# Altium schematic symbol library IsolationBoostConverter.SCHLIB: 9 symbols
Pins are listed as number, name and electrical type; pins without a type are passive.

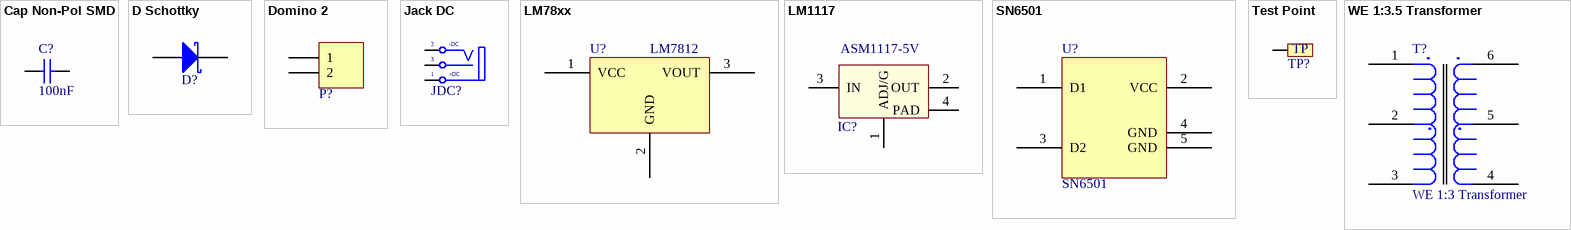
[diagram p0: symbols Cap Non-Pol SMD to WE 1:3.5 Transformer]

## Cap Non-Pol SMD
designator C?  value 100nF  (hidden comment: Cap Non-Pol SMD)
Capacitor
footprint CAP-SM-0805
footprint CAP-SM-1206
footprint CAP-SM-1210
footprint CAP-SM-0603 (SMD Ceramic Capacitor Size 0603)
pins: 1, 2

## D Schottky
designator D?  (value not drawn)
Schottky Diode; Published: 8-Jun-2000; LatestRevisionDate: 17-Jul-2002; LatestRevisionNote: Re-released for DXP Platform.; PackageReference: SMB; Publisher: Altium Limited; PackageDescription: DO-214-AA/SMB; 2 C-Bend Leads; Body 5.3 x 3.6 mm, inc. leads (LxW); Code_JEDEC: DO-214-AA
footprint SS34 (DO-214-AC/SMA Molded Diode, Body 5.3x2.6mm, IPC Medium Density)
pins: 1 A, 2 K

## Domino 2
designator P?  (value not drawn)
Domino, 2-Pin; LatestRevisionDate: 17-Jul-2002; LatestRevisionNote: Re-released for DXP Platform.; Publisher: Altium Limited
footprint DOMINO 2- 5mm
footprint DOMINO SMALL 2 (3.5 mm)
pins: 1, 2

## Jack DC
designator JDC?  (value not drawn)
Jack DC input; Value: Jac DC
footprint DC-IN (Jac DC input)
pins: 1 T "Tip", 2 TN "Tip Normal (Break Contact)", 3 S (power) "Sleeve (Ground)"
text: -DC; +DC

## LM78xx
designator U?, comment LM7812
footprint DPAK228P1014X239-3N (D-PAK, 3-Pads, Body 6.21x6.72mm (max), IPC Medium Density)
pins: 1 VCC, 2 GND, 3 VOUT

## LM1117
designator IC?, comment ASM1117-5V
Available in 1.8V, 2.5V, 2.85V, 3.3V, 5V, and  Adjustable Versions; Value: LM317
footprint SOT223-4N (SOT223, 4-Leads, Body 6.5x3.5mm, Pitch 2.3mm, Lead Span 7mm, IPC Medium Density)
pins: 1 ADJ/G, 2 OUT, 3 IN, 4 PAD

## SN6501
designator U?
footprint SOT95P280X145-5N (SOT23, 5-Leads, Body 2.88x2.80mm, Pitch 0.95mm, IPC Medium Density)
pins: 1 D1, 2 VCC, 3 D2, 4 GND, 5 GND

## Test Point
designator TP?  (value not drawn)
footprint TP_2
pins: 1 0
text: TP

## WE 1:3.5 Transformer
designator T?, comment WE 1:3 Transformer
Manufacturer: Wurth Elektronik; Manufacturer P/N: 750316818; ComponentLink1Description: Supplier 1 Link; ComponentLink1URL: https://www.mouser.vn/ProductDetail/Wurth-Elektronik/750316818?qs=%2Fha2pyFaduhwWLO%2FwuaxPfkbn2Vm0sf%2F6JG8uX8izSO8%2FxDOwuQ00g%3D%3D; Supplier 1: Mouser; Supplier 1 P/N: 710-750316818
footprint 750316818
pins: 1, 2, 3, 4, 5, 6